# Altium footprint library aab_Active.PcbLib: 13 footprints
Each footprint in its own frame and in the unit in brackets; x right, y up, seen from the top. Pads: shape width x height; smd on the part's side, far side on the other; paste and mask are expansions set on the pad; w line width, h text height; cw(c..) or ccw(c..) is an arc to the next point about the centre after c.
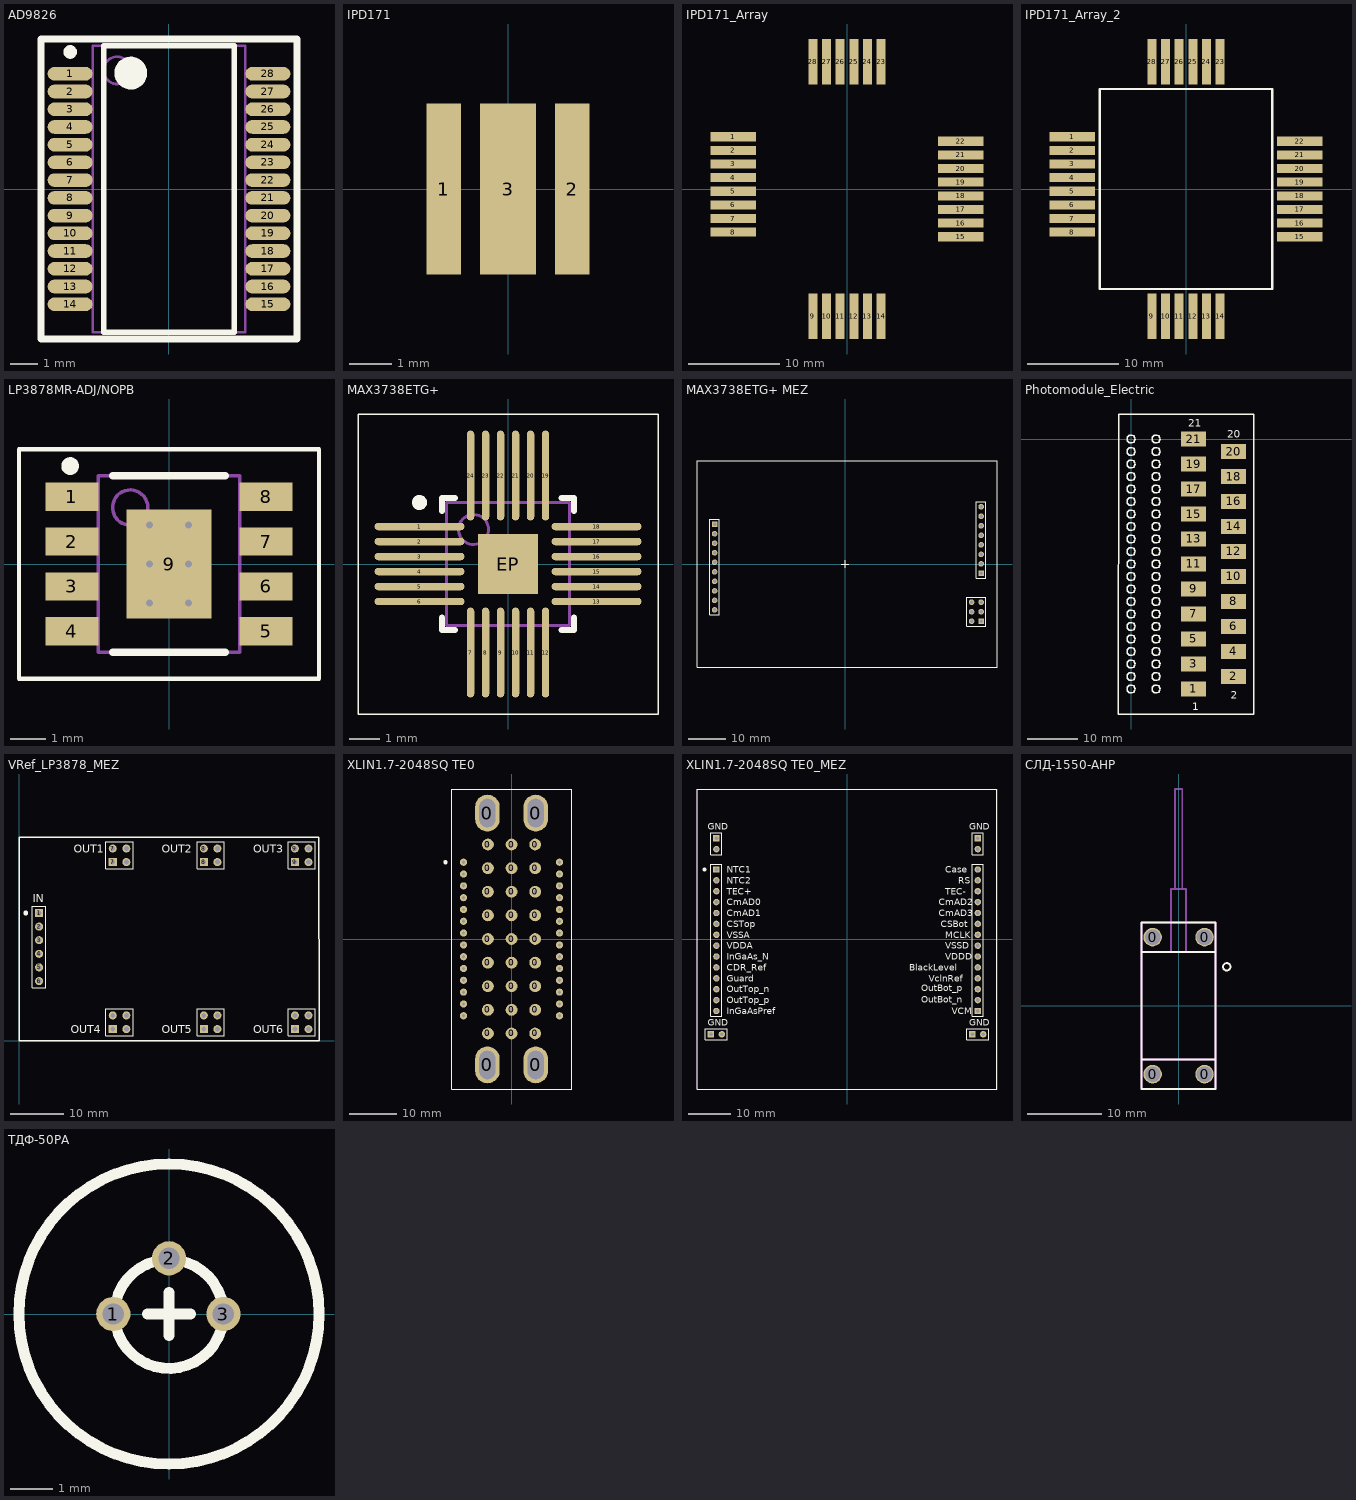
[diagram p0: the footprints below, top view; thin cyan lines are the x and y axes]

## AD9826 [mm] "SSOP, 28-Leads, Body 10,20x5,30mm, Pitch 0,65mm, IPC Medium Density"
height 2
pads (28):
  oval 1.65x0.5 smd: 1(-3.625,4.225) 2(-3.625,3.575) 3(-3.625,2.925) 4(-3.625,2.275) 5(-3.625,1.625) 6(-3.625,0.975) 7(-3.625,0.325) 8(-3.625,-0.325) 9(-3.625,-0.975) 10(-3.625,-1.625) 11(-3.625,-2.275) 12(-3.625,-2.925) 13(-3.625,-3.575) 14(-3.625,-4.225) 15(3.625,-4.225) 16(3.625,-3.575) 17(3.625,-2.925) 18(3.625,-2.275) 19(3.625,-1.625) 20(3.625,-0.975) 21(3.625,-0.325) 22(3.625,0.325) 23(3.625,0.975) 24(3.625,1.625) 25(3.625,2.275) 26(3.625,2.925) 27(3.625,3.575) 28(3.625,4.225)
Top Overlay:
  circle w0.25: c-3.625,5.025 r0.125
  circle w0.6: c-1.4,4.25 r0.3
  lines w0.2: -2.4,-5.25 -2.4,5.25 2.4,5.25 2.4,-5.25 -2.4,-5.25
  lines w0.254: -4.7,-5.5 -4.7,5.5 4.7,5.5 4.7,-5.5 -4.7,-5.5
Mechanical 13:
  circle w0.1: c-1.9,4.35 r0.5
  lines w0.1: -2.8,-5.25 -2.8,5.25 2.8,5.25 2.8,-5.25 -2.8,-5.25
3D body: height 2, standoff 0.1, extent -2.8,-5.25 2.8,5.25

## IPD171 [mm]
pads (3):
  rect 0.8x4 smd: 1(-1.5,0) 2(1.5,0)
  rect 1.3x4 smd: 3(0,0)
3D body: height 1.6, standoff 0, extent -1.75,-1.75 1.75,1.75
3D body: height 3.55, standoff -2.2, extent 3.925,-0.125 3.925,-0.125

## IPD171_Array [mm]
pads (28):
  rect 5x1 smd: 1(-12.5,5.75) 2(-12.5,4.25) 3(-12.5,2.75) 4(-12.5,1.25) 5(-12.5,-0.25) 6(-12.5,-1.75) 7(-12.5,-3.25) 8(-12.5,-4.75) 15(12.5,-5.25) 16(12.5,-3.75) 17(12.5,-2.25) 18(12.5,-0.75) 19(12.5,0.75) 20(12.5,2.25) 21(12.5,3.75) 22(12.5,5.25)
  rect 1x5 smd: 9(-3.75,-14) 10(-2.25,-14) 11(-0.75,-14) 12(0.75,-14) 13(2.25,-14) 14(3.75,-14) 23(3.75,14) 24(2.25,14) 25(0.75,14) 26(-0.75,14) 27(-2.25,14) 28(-3.75,14)

## IPD171_Array_2 [mm]
height 1.68
pads (28):
  rect 5x1 smd: 1(-12.5,5.75) 2(-12.5,4.25) 3(-12.5,2.75) 4(-12.5,1.25) 5(-12.5,-0.25) 6(-12.5,-1.75) 7(-12.5,-3.25) 8(-12.5,-4.75) 15(12.5,-5.25) 16(12.5,-3.75) 17(12.5,-2.25) 18(12.5,-0.75) 19(12.5,0.75) 20(12.5,2.25) 21(12.5,3.75) 22(12.5,5.25)
  rect 1x5 smd: 9(-3.75,-14) 10(-2.25,-14) 11(-0.75,-14) 12(0.75,-14) 13(2.25,-14) 14(3.75,-14) 23(3.75,14) 24(2.25,14) 25(0.75,14) 26(-0.75,14) 27(-2.25,14) 28(-3.75,14)
Top Overlay:
  lines w0.254: -9.5,-11 -9.5,11 9.5,11 9.5,-11 -9.5,-11

## LP3878MR-ADJ/NOPB [mm] "SOIC, 8-Leads, Body 4,90x3,90mm, Pitch 1,27mm, Thermal Pad 3,10x2,41mm, IPC Medium Density"
height 1.68
pads (9):
  rect 1.5x0.8 smd: 1(-2.75,1.905) 2(-2.75,0.635) 3(-2.75,-0.635) 4(-2.75,-1.905) 5(2.75,-1.905) 6(2.75,-0.635) 7(2.75,0.635) 8(2.75,1.905)
  rect 2.41x3.1 smd: 9(0,0)
via 0.55,-1.1 diameter 0.5 hole 0.2
via -0.55,-1.1 diameter 0.5 hole 0.2
via 0.55,0 diameter 0.5 hole 0.2
via -0.55,0 diameter 0.5 hole 0.2
via 0.55,1.1 diameter 0.5 hole 0.2
via -0.55,1.1 diameter 0.5 hole 0.2
Top Overlay:
  circle w0.25: c-2.8,2.775 r0.125
  lines w0.127: -4.25,-3.25 -4.25,3.25 4.25,3.25 4.25,-3.25 -4.25,-3.25
  lines w0.2: -1.6,-2.5 1.6,-2.5 ; -1.6,2.5 1.6,2.5
Mechanical 13:
  circle w0.1: c-1.1,1.6 r0.5
  lines w0.1: -2,-2.5 2,-2.5 2,2.5 -2,2.5 -2,-2.5
Mechanical 15:
  lines w0.1: -0.5,0 0.5,0 ; 0,-0.5 0,0.5
3D body: height 1.68, standoff 0.03, extent -2,-2.5 2,2.5

## MAX3738ETG+ [mm] "QFN, 24-Leads, Body 4,00x4,00mm, Pitch 0,50mm, Thermal Pad 2,54x2,54mm, IPC Medium Density"
height 0.8
pads (25):
  oval 3x0.25 smd: 1(-2.95,1.25) 2(-2.95,0.75) 3(-2.95,0.25) 4(-2.95,-0.25) 5(-2.95,-0.75) 6(-2.95,-1.25) 13(2.95,-1.25) 14(2.95,-0.75) 15(2.95,-0.25) 16(2.95,0.25) 17(2.95,0.75) 18(2.95,1.25)
  oval 0.25x3 smd: 7(-1.25,-2.95) 8(-0.75,-2.95) 9(-0.25,-2.95) 10(0.25,-2.95) 11(0.75,-2.95) 12(1.25,-2.95) 19(1.25,2.95) 20(0.75,2.95) 21(0.25,2.95) 22(-0.25,2.95) 23(-0.75,2.95) 24(-1.25,2.95)
  rect 2x2 smd: EP(0,0)
Top Overlay:
  circle w0.25: c-2.95,2.05 r0.125
  lines w0.05: -5,-5 -5,5 5,5 5,-5 -5,-5
  lines w0.2: -2.2,-1.775 -2.2,-2.2 -1.775,-2.2 ; -2.2,1.775 -2.2,2.2 -1.775,2.2 ; 1.775,-2.2 2.2,-2.2 2.2,-1.775 ; 1.775,2.2 2.2,2.2 2.2,1.775
Mechanical 13:
  circle w0.1: c-1.15,1.15 r0.5
  lines w0.1: -2.05,-2.05 -2.05,2.05 2.05,2.05 2.05,-2.05 -2.05,-2.05
Mechanical 15:
  lines w0.1: -0.5,0 0.5,0 ; 0,-0.5 0,0.5
3D body: height 0.8, standoff 0, extent -2.05,-2.05 2.05,2.05

## MAX3738ETG+ MEZ [mm]
pads (24):
  rect 1.5x1.5 hole 0.9: 1(-34.818,10.658) 11(36.255,-2.468) 19(36.254,-15.221)
  round 1.5 hole 0.9: 2(-34.818,8.118) 3(-34.818,5.578) 4(-34.818,3.038) 5(-34.818,0.498) 6(-34.818,-2.042) 7(-34.818,-4.582) 8(-34.818,-7.122) 9(-34.818,-9.662) 10(-34.818,-12.202) 12(36.255,0.072) 13(36.255,2.612) 14(36.255,5.152) 15(36.255,7.692) 16(36.255,10.232) 17(36.255,12.772) 18(36.255,15.312) 20(36.254,-12.681) 21(36.254,-10.141) 22(33.714,-15.221) 23(33.714,-12.681) 24(33.714,-10.141)
Top Overlay:
  lines w0.2: -36.088,-13.472 -33.548,-13.472 -33.548,10.023 -33.548,11.928 -36.088,11.928 -36.088,-13.472 ; 32.444,-16.491 32.444,-8.871 37.524,-8.871 37.524,-16.491 32.444,-16.491 ; 34.985,-3.738 37.525,-3.738 37.525,16.582 34.985,16.582 34.985,-3.738
  lines w0.254: -1,0 1,0 ; 0,-1 0,1 ; -39.515,27.545 40.485,27.545 40.485,-27.455 -39.515,-27.455 -39.515,27.545 ; -39.515,27.545 -39.515,27.545

## Photomodule_Electric [mm]
pads (21):
  rect 5x3 smd: 1(12.5,-50) 2(20.5,-47.5) 3(12.5,-45) 4(20.5,-42.5) 5(12.5,-40) 6(20.5,-37.5) 7(12.5,-35) 8(20.5,-32.5) 9(12.5,-30) 10(20.5,-27.5) 11(12.5,-25) 12(20.5,-22.5) 13(12.5,-20) 14(20.5,-17.5) 15(12.5,-15) 16(20.5,-12.5) 17(12.5,-10) 18(20.5,-7.5) 19(12.5,-5) 20(20.5,-2.5) 21(12.5,0)
Top Overlay:
  circle w0.254: c5,-17.5 r0.8
  circle w0.254: c5,-50 r0.8
  circle w0.254: c0,-17.5 r0.8
  circle w0.254: c0,-50 r0.8
  circle w0.254: c5,0 r0.8
  circle w0.254: c5,-5 r0.8
  circle w0.254: c5,-2.5 r0.8
  circle w0.254: c5,-15 r0.8
  circle w0.254: c5,-12.5 r0.8
  circle w0.254: c5,-25 r0.8
  circle w0.254: c5,-22.5 r0.8
  circle w0.254: c5,-32.5 r0.8
  circle w0.254: c5,-27.5 r0.8
  circle w0.254: c5,-35 r0.8
  circle w0.254: c5,-37.5 r0.8
  circle w0.254: c5,-45 r0.8
  circle w0.254: c5,-47.5 r0.8
  circle w0.254: c0,0 r0.8
  circle w0.254: c0,-5 r0.8
  circle w0.254: c0,-2.5 r0.8
  circle w0.254: c0,-15 r0.8
  circle w0.254: c0,-12.5 r0.8
  circle w0.254: c0,-25 r0.8
  circle w0.254: c0,-22.5 r0.8
  circle w0.254: c0,-32.5 r0.8
  circle w0.254: c0,-27.5 r0.8
  circle w0.254: c0,-35 r0.8
  circle w0.254: c0,-37.5 r0.8
  circle w0.254: c0,-45 r0.8
  circle w0.254: c0,-47.5 r0.8
  circle w0.254: c5,-7.5 r0.8
  circle w0.254: c5,-10 r0.8
  circle w0.254: c5,-20 r0.8
  circle w0.254: c5,-30 r0.8
  circle w0.254: c5,-40 r0.8
  circle w0.254: c5,-42.5 r0.8
  circle w0.254: c0,-7.5 r0.8
  circle w0.254: c0,-10 r0.8
  circle w0.254: c0,-20 r0.8
  circle w0.254: c0,-30 r0.8
  circle w0.254: c0,-40 r0.8
  circle w0.254: c0,-42.5 r0.8
  lines w0.254: -2.5,-55 -2.5,5 24.5,5 24.5,-55 -2.5,-55
  text "1" at 12.246,-54.25 h1.52
  text "2" at 19.992,-51.95 h1.52
  text "20" at 19.23,0.25 h1.52
  text "21" at 11.484,2.5 h1.52

## VRef_LP3878_MEZ [mm]
pads (30):
  rect 1.5x1.5 hole 0.9: 1(3.75,23.85) 7(17.5,33.35) 8(34.5,33.35) 9(51.5,33.35) 10(17.5,2.187) 11(34.5,2.187) 12(51.5,2.187)
  round 1.5 hole 0.9: 2(3.75,21.31) 3(3.75,18.77) 4(3.75,16.23) 5(3.75,13.69) 6(3.75,11.15) 7(17.5,35.89) 8(34.5,35.89) 9(51.5,35.89) 10(17.5,4.727) 11(34.5,4.727) 12(51.5,4.727) 13(20.04,2.187) 13(20.04,4.727) 13(20.04,33.35) 13(20.04,35.89) 13(37.04,2.187) 13(37.04,4.727) 13(37.04,33.35) 13(37.04,35.89) 13(54.04,2.187) 13(54.04,4.727) 13(54.04,33.35) 13(54.04,35.89)
Top Overlay:
  circle w0.5: c1.25,23.85 r0.2
  lines w0.2: 2.48,9.88 2.48,25.12 5.02,25.12 5.02,9.88 2.48,9.88 ; 16.23,0.917 21.31,0.917 21.31,5.997 16.23,5.997 16.23,0.917 ; 16.23,32.08 21.31,32.08 21.31,37.16 16.23,37.16 16.23,32.08 ; 33.23,0.917 38.31,0.917 38.31,5.997 33.23,5.997 33.23,0.917 ; 33.23,32.08 38.31,32.08 38.31,37.16 33.23,37.16 33.23,32.08 ; 50.23,0.917 55.31,0.917 55.31,5.997 50.23,5.997 50.23,0.917 ; 50.23,32.08 55.31,32.08 55.31,37.16 50.23,37.16 50.23,32.08
  lines w0.254: 0,0 56,0 56,38 0,38 0,0
  text "IN" at 2.607,25.9 h1.52
  text "OUT6" at 43.687,1.425 h1.52
  text "OUT5" at 26.687,1.425 h1.52
  text "OUT4" at 9.687,1.425 h1.52
  text "OUT3" at 43.687,35.128 h1.52
  text "OUT2" at 26.687,35.128 h1.52
  text "OUT1" at 10.187,35.128 h1.52
3D body: height 18.8, standoff 8.5, extent 0,0 56,38

## XLIN1.7-2048SQ TE0 [mm]
pads (59):
  oval 5.2x7.8 hole 3.4 slot 6 at 90 deg: 0(-5.1,-26.65) 0(-5.1,26.65) 0(5.1,-26.65) 0(5.1,26.65)
  round 2.5 hole 0.762: 0(-5,-20) 0(-5,-15) 0(-5,-10) 0(-5,-5) 0(-5,0) 0(-5,5) 0(-5,10) 0(-5,15) 0(-5,20) 0(0,-20) 0(0,-15) 0(0,-10) 0(0,-5) 0(0,0) 0(0,5) 0(0,10) 0(0,15) 0(0,20) 0(5,-20) 0(5,-15) 0(5,-10) 0(5,-5) 0(5,0) 0(5,5) 0(5,10) 0(5,15) 0(5,20)
  round 1.524 hole 0.7: 1(-10.15,16.25) 2(-10.15,13.75) 3(-10.15,11.25) 4(-10.15,8.75) 5(-10.15,6.25) 6(-10.15,3.75) 7(-10.15,1.25) 8(-10.15,-1.25) 9(-10.15,-3.75) 10(-10.15,-6.25) 11(-10.15,-8.75) 12(-10.15,-11.25) 13(-10.15,-13.75) 14(-10.15,-16.25) 15(10.15,-16.25) 16(10.15,-13.75) 17(10.15,-11.25) 18(10.15,-8.75) 19(10.15,-6.25) 20(10.15,-3.75) 21(10.15,-1.25) 22(10.15,1.25) 23(10.15,3.75) 24(10.15,6.25) 25(10.15,8.75) 26(10.15,11.25) 27(10.15,13.75) 28(10.15,16.25)
Top Overlay:
  circle w0.5: c-14,16.25 r0.2
  lines w0.254: -12.7,-31.75 12.7,-31.75 12.7,31.75 -12.7,31.75 -12.7,-31.75

## XLIN1.7-2048SQ TE0_MEZ [mm]
pads (36):
  rect 1.5x1.5 hole 0.9: 1(-30.48,16.225) 15(30.52,-16.795) 29(-31.75,-22.23) 29(-30.48,23.5) 29(29.25,-22.23) 29(30.52,23.5)
  round 1.5 hole 0.9: 2(-30.48,13.685) 3(-30.48,11.145) 4(-30.48,8.605) 5(-30.48,6.065) 6(-30.48,3.525) 7(-30.48,0.985) 8(-30.48,-1.555) 9(-30.48,-4.095) 10(-30.48,-6.635) 11(-30.48,-9.175) 12(-30.48,-11.715) 13(-30.48,-14.255) 14(-30.48,-16.795) 16(30.52,-14.255) 17(30.52,-11.715) 18(30.52,-9.175) 19(30.52,-6.635) 20(30.52,-4.095) 21(30.52,-1.555) 22(30.52,0.985) 23(30.52,3.525) 24(30.52,6.065) 25(30.52,8.605) 26(30.52,11.145) 27(30.52,13.685) 28(30.52,16.225) 29(-30.48,20.96) 29(-29.21,-22.23) 29(30.52,20.96) 29(31.79,-22.23)
Top Overlay:
  circle w0.5: c-33.25,16.225 r0.2
  lines w0.2: -33.02,-23.5 -33.02,-20.96 -27.94,-20.96 -27.94,-23.5 -33.02,-23.5 ; -31.75,-18.065 -29.21,-18.065 -29.21,15.59 -29.21,17.495 -31.75,17.495 -31.75,-18.065 ; -31.75,19.69 -31.75,24.77 -29.21,24.77 -29.21,19.69 -31.75,19.69 ; 27.98,-23.5 27.98,-20.96 33.06,-20.96 33.06,-23.5 27.98,-23.5 ; 29.25,-18.065 31.79,-18.065 31.79,17.495 29.25,17.495 29.25,-16.16 29.25,-18.065 ; 29.25,19.69 29.25,24.77 31.79,24.77 31.79,19.69 29.25,19.69
  lines w0.254: -35,-35 35,-35 35,35 -35,35 -35,-35
  text "NTC2" at -28,12.923 h1.52
  text "NTC1" at -28,15.463 h1.52
  text "TEC+" at -28,10.383 h1.52
  text "CmAD0" at -28,7.843 h1.52
  text "CmAD1" at -28,5.303 h1.52
  text "CSTop" at -28,2.767 h1.52
  text "VSSA" at -28,0.223 h1.52
  text "VDDA" at -28,-2.317 h1.52
  text "InGaAs_N" at -28,-4.83 h1.52
  text "CDR_Ref" at -28,-7.368 h1.52
  text "Guard" at -28,-9.937 h1.52
  text "OutTop_n" at -28,-12.444 h1.52
  text "OutTop_p" at -28,-15.009 h1.52
  text "InGaAsPref" at -28,-17.557 h1.52
  text "VCM" at 24.403,-17.557 h1.52
  text "OutBot_n" at 17.293,-14.888 h1.52
  text "OutBot_p" at 17.293,-12.244 h1.52
  text "VclnRef" at 19.071,-9.937 h1.52
  text "BlackLevel" at 14.5,-7.397 h1.52
  text "VDDD" at 22.879,-4.857 h1.52
  text "VSSD" at 22.879,-2.317 h1.52
  text "MCLK" at 22.879,0.223 h1.52
  text "CSBot" at 21.864,2.763 h1.52
  text "CmAD3" at 21.356,5.303 h1.52
  text "CmAD2" at 21.356,7.843 h1.52
  text "TEC-" at 22.879,10.383 h1.52
  text "Case" at 22.879,15.463 h1.52
  text "RS" at 25.926,12.923 h1.52
  text "GND" at -32.511,25.5 h1.52
  text "GND" at 28.489,25.5 h1.52
  text "GND" at 28.489,-20.25 h1.52
  text "GND" at -32.511,-20.25 h1.52
Mechanical 13:
  lines w0.254: -35,-35 35,-35 35,35 -35,35 -35,-35
3D body: height 12.5, standoff 10, extent -35,-35 35,35

## СЛД-1550-АНР [mm]
pads (4):
  round 2.5 hole 2.1: 0(-3.5,-9.25) 0(-3.5,9.25) 0(3.5,-9.25) 0(3.5,9.25)
Top Overlay:
  circle w0.254: c6.5,5.25 r0.5
  pour cut-out: -3,14.25
  lines w0.254: -5,-7.25 5,-7.25 ; -5,7.25 5,7.25 ; -5,-11.25 -5,11.25 5,11.25 5,-11.25 -5,-11.25
Mechanical 13:
  lines w0.254: -5,-7.25 5,-7.25 ; -5,7.25 5,7.25 ; -1,7.25 -1,11.25 ; -0.5,15.75 -0.5,29.25 -0.5,29.25 0.499,29.25 0.5,15.75 ; 1,7.25 1,11.25 ; -1,11.25 1,11.25 ; -1,11.25 -1,15.75 1,15.75 1,11.25 ; -1,11.25 -5,11.25 -5,-11.25 5,-11.25 5,11.25 1,11.25
3D body: height 19.81, standoff -6.6, extent 15,2.75 15,2.75
3D body: height 2.75, standoff 2.25, extent 5,-4 15,-3.501
3D body: height 2.75, standoff 2.25, extent 5,-1.5 15,-1.001
3D body: height 2.75, standoff 2.25, extent 5,1 15,1.499
3D body: height 2.75, standoff 2.25, extent 5,3.5 15,3.999
3D body: height 3, standoff 2, extent -0.499,15.75 0.499,29.25
3D body: height 0.99, standoff -1, extent -0.5,30.75 -0.5,30.75
3D body: height 3.49, standoff 1.5, extent -0.998,7.25 0.998,15.75
3D body: height 4, standoff 1, extent -5,-7.25 5,7.25
3D body: height 1.27, standoff 0, extent -0.5,4.25 -0.5,4.25
3D body: height 1, standoff 0, extent -5,-11.25 5,11.25
3D body: height 1, standoff 0, extent 9.5,9.75 9.5,9.75
3D body: height 1, standoff 0, extent 9.5,6.75 9.5,6.75
3D body: height 19.81, standoff -6.6, extent -3.5,9.25 -3.5,9.25

## ТДФ-50РА [mm]
pads (3):
  round 0.8 hole 0.5: 1(-1.3,0) 2(0,1.3) 3(1.27,0)
Top Overlay:
  circle w0.254: c0,0 r1.27
  circle w0.254: c0,0 r3.5
  lines w0.254: -0.5,0 0.5,0 ; 0,-0.5 0,0.5